# Altium schematic symbol library RF_Transformers .SchLib: 1 symbol
Pins are listed as number, name and electrical type; pins without a type are passive.

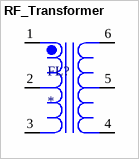
[diagram p0: symbol RF_Transformer]

## RF_Transformer
designator FL?
Bias Injection Choke; MF: {'manufacturer': u'Coilcraft'}; MP: KA4909-AL; Package: None; Availability: Unavailable; Value: *; Price: None
footprint FIL_KA4909-AL
pins: 1, 2, 3, 4, 5, 6